# Altium schematic symbol library H-bridges.SchLib: 2 symbols
Pins are listed as number, name and electrical type; pins without a type are passive.

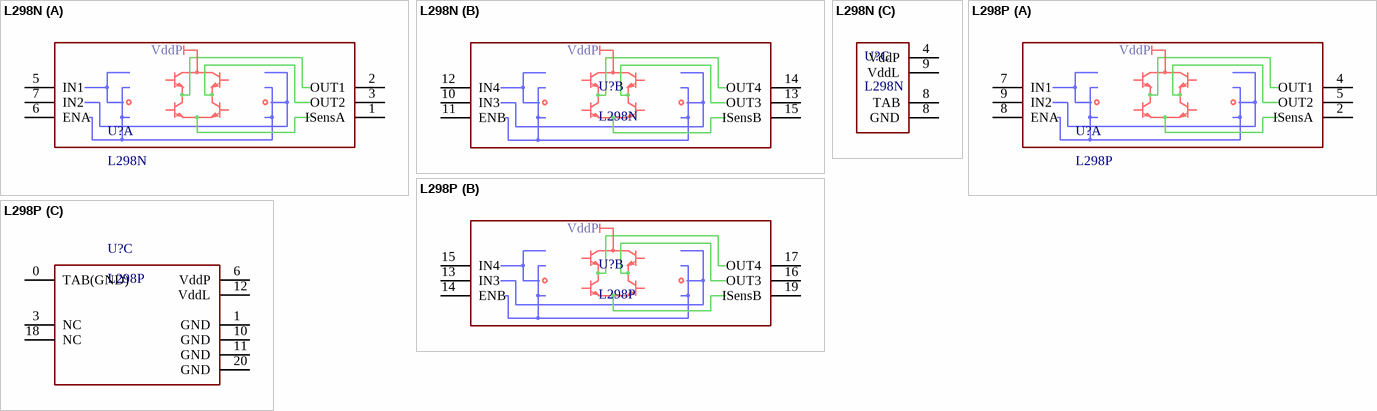
[diagram p0: symbols L298N to L298P]

## L298N
designator U?
Dual full-bridge driver, TH VERT; Vcc max: 46 V; Isum max: 4 A; Vin_low_min: 1.5 V
footprint TO-220-15 ( Multiwatt15V )
part A pins: 1 ISensA, 2 OUT1, 3 OUT2, 5 IN1, 6 ENA, 7 IN2
part B pins: 10 IN3, 11 ENB, 12 IN4, 13 OUT3, 14 OUT4, 15 ISensB
part C pins: 4 VddP, 8 GND, 8 TAB, 9 VddL

## L298P
designator U?
Dual full-bridge driver, SMD; Vcc max: 46 V; Isum max: 4 A; Vin_low_min: 1.5 V
footprint LC-PowerSO-20
part A pins: 2 ISensA, 4 OUT1, 5 OUT2, 7 IN1, 8 ENA, 9 IN2
part B pins: 13 IN3, 14 ENB, 15 IN4, 16 OUT3, 17 OUT4, 19 ISensB
part C pins: 0 TAB(GND), 1 GND, 3 NC, 6 VddP, 10 GND, 11 GND, 12 VddL, 18 NC, 20 GND